# Altium schematic symbol library CONTROLLER_30_Library.SchLib: 48 symbols
Pins are listed as number, name and electrical type; pins without a type are passive.

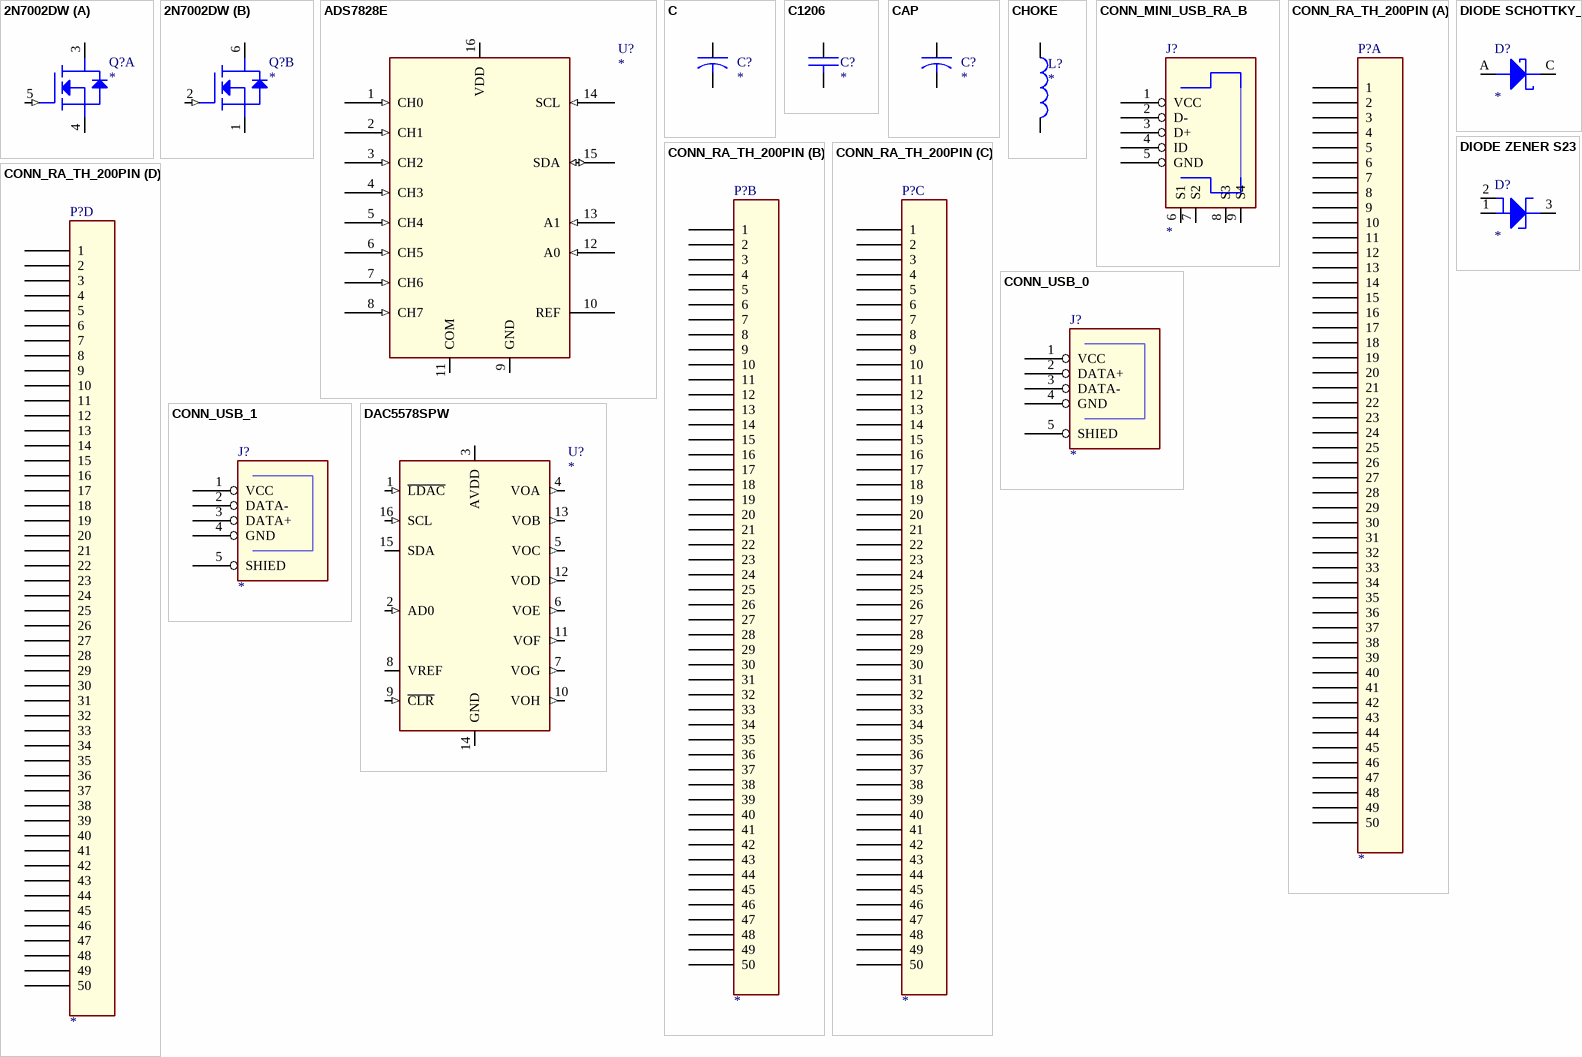
[diagram p0: symbols 2N7002DW to DIODE ZENER S23]

## 2N7002DW
designator Q?
footprint SOT_363
part A pins: 3 DRAIN, 4 SOURCE, 5 GATE (in)
part B pins: 1 SOURCE, 2 GATE (in), 6 DRAIN

## ADS7828E
designator U?
footprint TSSOP_16
pins: 1 CH0 (in), 2 CH1 (in), 3 CH2 (in), 4 CH3 (in), 5 CH4 (in), 6 CH5 (in), 7 CH6 (in), 8 CH7 (in), 9 GND, 10 REF, 11 COM, 12 A0 (in), 13 A1 (in), 14 SCL (in), 15 SDA (io), 16 VDD

## C
designator C?
pins: 1, 2

## C1206
designator C?
pins: 1, 2

## CAP
designator C?
pins: 1, 2

## CHOKE
designator L?
pins: 1, 2

## CONN_MINI_USB_RA_B
designator J?
footprint T/H_8
pins: 1 VCC, 2 D-, 3 D+, 4 ID, 5 GND, 6 S1, 7 S2, 8 S3, 9 S4

## CONN_RA_TH_200PIN
designator P?
footprint TH_4X50_100mil
part A pins: 1A 1, 2A 2, 3A 3, 4A 4, 5A 5, 6A 6, 7A 7, 8A 8, 9A 9, 10A 10, 11A 11, 12A 12, 13A 13, 14A 14, 15A 15, 16A 16, 17A 17, 18A 18, 19A 19, 20A 20, 21A 21, 22A 22, 23A 23, 24A 24, 25A 25, 26A 26, 27A 27, 28A 28, 29A 29, 30A 30, 31A 31, 32A 32, 33A 33, 34A 34, 35A 35, 36A 36, 37A 37, 38A 38, 39A 39, 40A 40, 41A 41, 42A 42, 43A 43, 44A 44, 45A 45, 46A 46, 47A 47, 48A 48, 49A 49, 50A 50
part B pins: 1B 1, 2B 2, 3B 3, 4B 4, 5B 5, 6B 6, 7B 7, 8B 8, 9B 9, 10B 10, 11B 11, 12B 12, 13B 13, 14B 14, 15B 15, 16B 16, 17B 17, 18B 18, 19B 19, 20B 20, 21B 21, 22B 22, 23B 23, 24B 24, 25B 25, 26B 26, 27B 27, 28B 28, 29B 29, 30B 30, 31B 31, 32B 32, 33B 33, 34B 34, 35B 35, 36B 36, 37B 37, 38B 38, 39B 39, 40B 40, 41B 41, 42B 42, 43B 43, 44B 44, 45B 45, 46B 46, 47B 47, 48B 48, 49B 49, 50B 50
part C pins: 1C 1, 2C 2, 3C 3, 4C 4, 5C 5, 6C 6, 7C 7, 8C 8, 9C 9, 10C 10, 11C 11, 12C 12, 13C 13, 14C 14, 15C 15, 16C 16, 17C 17, 18C 18, 19C 19, 20C 20, 21C 21, 22C 22, 23C 23, 24C 24, 25C 25, 26C 26, 27C 27, 28C 28, 29C 29, 30C 30, 31C 31, 32C 32, 33C 33, 34C 34, 35C 35, 36C 36, 37C 37, 38C 38, 39C 39, 40C 40, 41C 41, 42C 42, 43C 43, 44C 44, 45C 45, 46C 46, 47C 47, 48C 48, 49C 49, 50C 50
part D pins: 1D 1, 2D 2, 3D 3, 4D 4, 5D 5, 6D 6, 7D 7, 8D 8, 9D 9, 10D 10, 11D 11, 12D 12, 13D 13, 14D 14, 15D 15, 16D 16, 17D 17, 18D 18, 19D 19, 20D 20, 21D 21, 22D 22, 23D 23, 24D 24, 25D 25, 26D 26, 27D 27, 28D 28, 29D 29, 30D 30, 31D 31, 32D 32, 33D 33, 34D 34, 35D 35, 36D 36, 37D 37, 38D 38, 39D 39, 40D 40, 41D 41, 42D 42, 43D 43, 44D 44, 45D 45, 46D 46, 47D 47, 48D 48, 49D 49, 50D 50

## CONN_USB_0
designator J?
footprint T/H_8
pins: 1 VCC, 2 DATA+, 3 DATA-, 4 GND, 5 SHIED

## CONN_USB_1
designator J?
footprint T/H_8
pins: 1 VCC, 2 DATA-, 3 DATA+, 4 GND, 5 SHIED

## DAC5578SPW
designator U?
footprint TSSOP_16
pins: 1 ~{LDAC} (in), 2 AD0 (in), 3 AVDD, 4 VOA (out), 5 VOC (out), 6 VOE (out), 7 VOG (out), 8 VREF, 9 ~{CLR} (in), 10 VOH (out), 11 VOF (out), 12 VOD (out), 13 VOB (out), 14 GND, 15 SDA (io), 16 SCL (in)

## DIODE SCHOTTKY_2
designator D?
pins: A, C

## DIODE ZENER S23
designator D?
pins: 1 ANODE 1, 2 Anode 2, 3 CATHODE

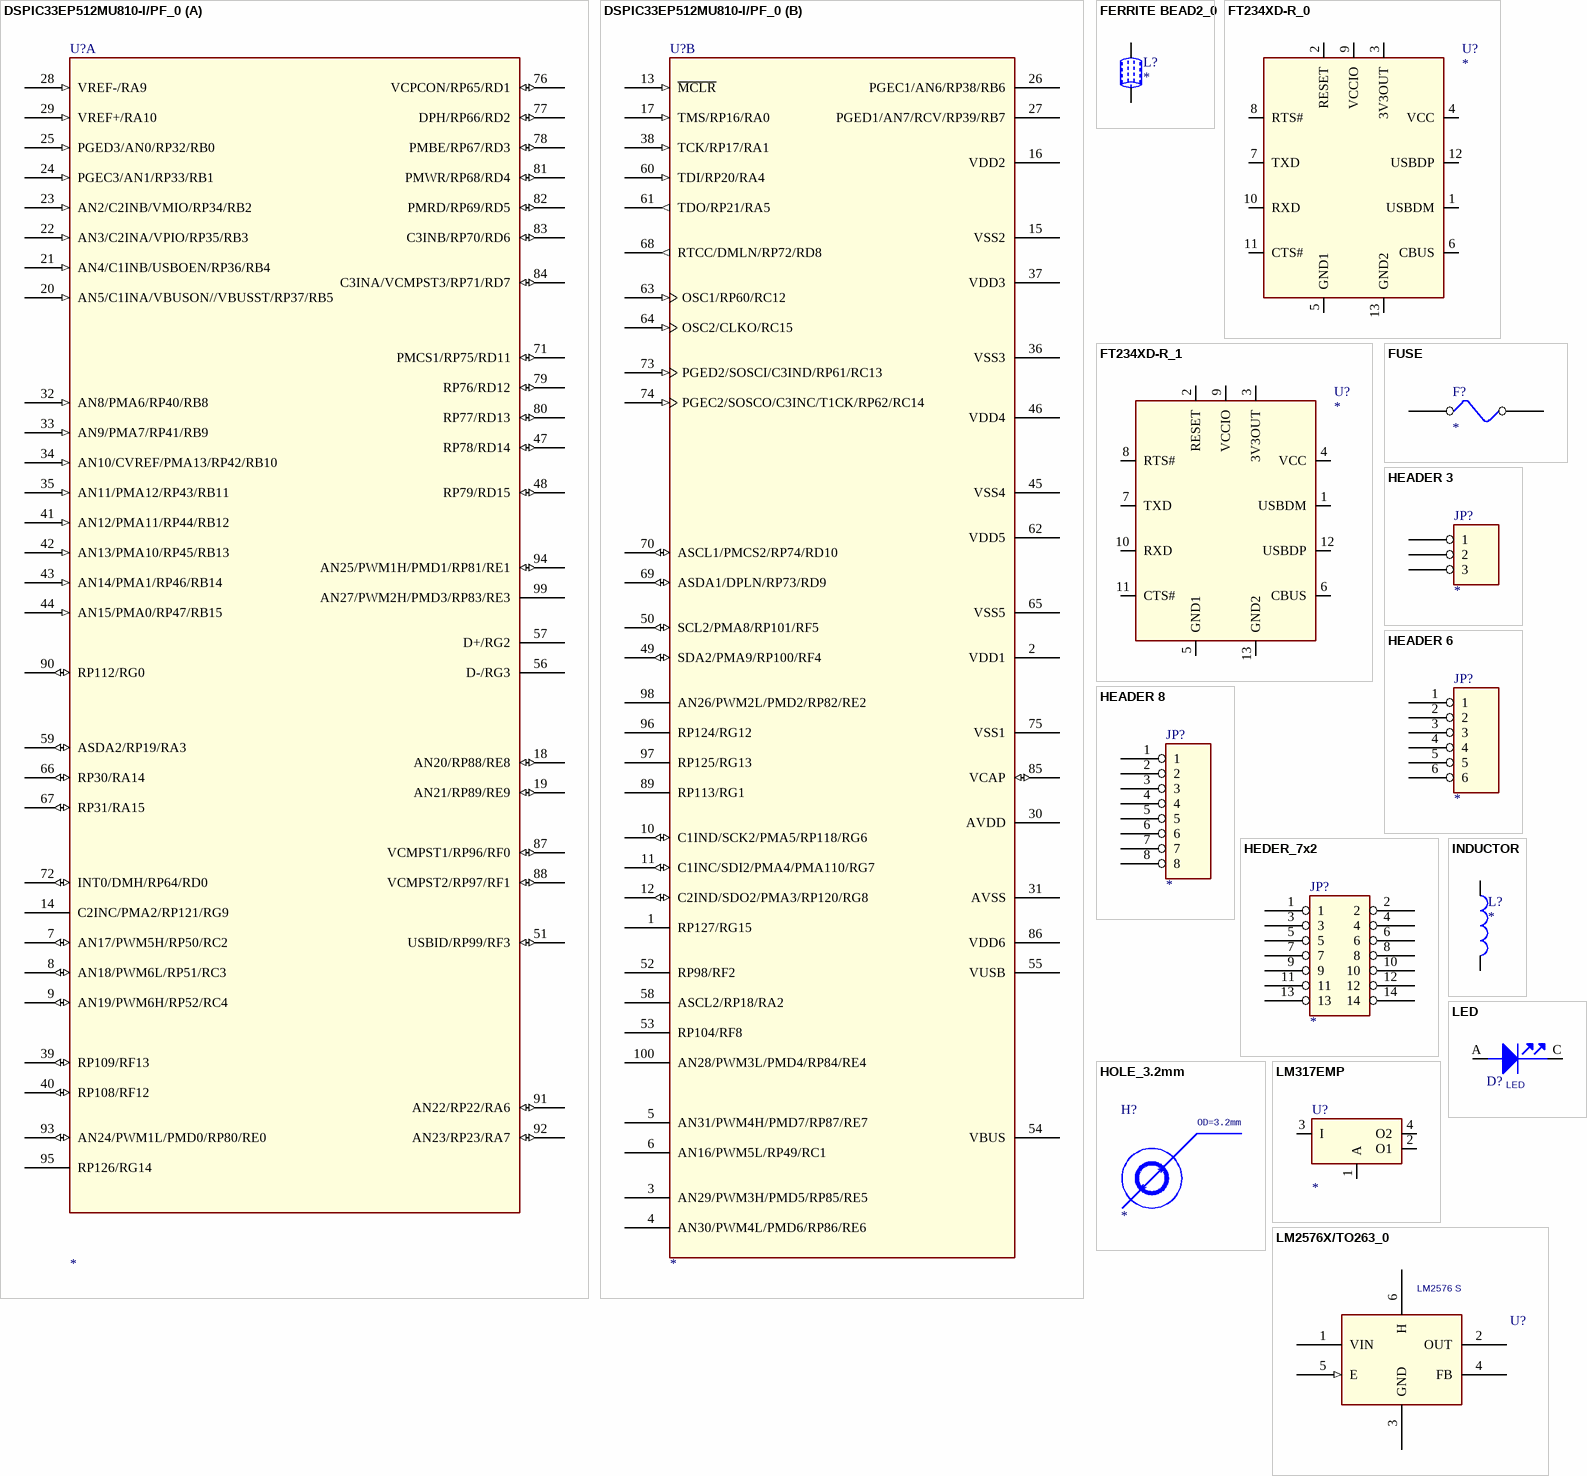
[diagram p1: symbols DSPIC33EP512MU810-I/PF_0 to LM2576X/TO263_0]

## DSPIC33EP512MU810-I/PF_0
designator U?
footprint TQFP100
part A pins: 7 AN17/PWM5H/RP50/RC2 (io), 8 AN18/PWM6L/RP51/RC3 (io), 9 AN19/PWM6H/RP52/RC4 (io), 14 C2INC/PMA2/RP121/RG9, 18 AN20/RP88/RE8 (io), 19 AN21/RP89/RE9 (io), 20 AN5/C1INA/VBUSON//VBUSST/RP37/RB5 (in), 21 AN4/C1INB/USBOEN/RP36/RB4 (in), 22 AN3/C2INA/VPIO/RP35/RB3 (in), 23 AN2/C2INB/VMIO/RP34/RB2 (in), 24 PGEC3/AN1/RP33/RB1 (in), 25 PGED3/AN0/RP32/RB0 (in), 28 VREF-/RA9 (in), 29 VREF+/RA10 (in), 32 AN8/PMA6/RP40/RB8 (in), 33 AN9/PMA7/RP41/RB9 (in), 34 AN10/CVREF/PMA13/RP42/RB10 (in), 35 AN11/PMA12/RP43/RB11 (in), 39 RP109/RF13 (io), 40 RP108/RF12 (io), 41 AN12/PMA11/RP44/RB12 (in), 42 AN13/PMA10/RP45/RB13 (in), 43 AN14/PMA1/RP46/RB14 (in), 44 AN15/PMA0/RP47/RB15 (in), 47 RP78/RD14 (io), 48 RP79/RD15 (io), 51 USBID/RP99/RF3 (io), 56 D-/RG3, 57 D+/RG2, 59 ASDA2/RP19/RA3 (io), 66 RP30/RA14 (io), 67 RP31/RA15 (io), 71 PMCS1/RP75/RD11 (io), 72 INT0/DMH/RP64/RD0 (io), 76 VCPCON/RP65/RD1 (io), 77 DPH/RP66/RD2 (io), 78 PMBE/RP67/RD3 (io), 79 RP76/RD12 (io), 80 RP77/RD13 (io), 81 PMWR/RP68/RD4 (io), 82 PMRD/RP69/RD5 (io), 83 C3INB/RP70/RD6 (io), 84 C3INA/VCMPST3/RP71/RD7 (io), 87 VCMPST1/RP96/RF0 (io), 88 VCMPST2/RP97/RF1 (io), 90 RP112/RG0 (io), 91 AN22/RP22/RA6 (io), 92 AN23/RP23/RA7 (io), 93 AN24/PWM1L/PMD0/RP80/RE0 (io), 94 AN25/PWM1H/PMD1/RP81/RE1 (io), 95 RP126/RG14, 99 AN27/PWM2H/PMD3/RP83/RE3
part B pins: 1 RP127/RG15, 2 VDD1 (power), 3 AN29/PWM3H/PMD5/RP85/RE5, 4 AN30/PWM4L/PMD6/RP86/RE6, 5 AN31/PWM4H/PMD7/RP87/RE7, 6 AN16/PWM5L/RP49/RC1, 10 C1IND/SCK2/PMA5/RP118/RG6 (io), 11 C1INC/SDI2/PMA4/PMA110/RG7 (io), 12 C2IND/SDO2/PMA3/RP120/RG8 (io), 13 ~{MCLR} (in), 15 VSS2 (power), 16 VDD2 (power), 17 TMS/RP16/RA0 (in), 26 PGEC1/AN6/RP38/RB6, 27 PGED1/AN7/RCV/RP39/RB7, 30 AVDD, 31 AVSS (power), 36 VSS3 (power), 37 VDD3 (power), 38 TCK/RP17/RA1 (in), 45 VSS4 (power), 46 VDD4 (power), 49 SDA2/PMA9/RP100/RF4 (io), 50 SCL2/PMA8/RP101/RF5 (io), 52 RP98/RF2, 53 RP104/RF8, 54 VBUS, 55 VUSB, 58 ASCL2/RP18/RA2, 60 TDI/RP20/RA4 (in), 61 TDO/RP21/RA5 (out), 62 VDD5 (power), 63 OSC1/RP60/RC12 (in), 64 OSC2/CLKO/RC15 (in), 65 VSS5 (power), 68 RTCC/DMLN/RP72/RD8 (out), 69 ASDA1/DPLN/RP73/RD9 (io), 70 ASCL1/PMCS2/RP74/RD10 (io), 73 PGED2/SOSCI/C3IND/RP61/RC13 (in), 74 PGEC2/SOSCO/C3INC/T1CK/RP62/RC14 (in), 75 VSS1 (power), 85 VCAP (io), 86 VDD6, 89 RP113/RG1, 96 RP124/RG12, 97 RP125/RG13, 98 AN26/PWM2L/PMD2/RP82/RE2, 100 AN28/PWM3L/PMD4/RP84/RE4

## FERRITE BEAD2_0
designator L?
pins: 1, 2

## FT234XD-R_0
designator U?
footprint DFN_12
pins: 1 USBDM, 2 RESET, 3 3V3OUT, 4 VCC, 5 GND1, 6 CBUS, 7 TXD, 8 RTS#, 9 VCCIO, 10 RXD, 11 CTS#, 12 USBDP, 13 GND2

## FT234XD-R_1
designator U?
footprint DFN_12
pins: 1 USBDM, 2 RESET, 3 3V3OUT, 4 VCC, 5 GND1, 6 CBUS, 7 TXD, 8 RTS#, 9 VCCIO, 10 RXD, 11 CTS#, 12 USBDP, 13 GND2

## FUSE
designator F?
pins: 1, 2

## HEADER 3
designator JP?
pins: 1, 2, 3

## HEADER 6
designator JP?
pins: 1, 2, 3, 4, 5, 6

## HEADER 8
designator JP?
pins: 1, 2, 3, 4, 5, 6, 7, 8

## HEDER_7x2
designator JP?
footprint HEADER_2x7PIN_100mil
pins: 1, 2, 3, 4, 5, 6, 7, 8, 9, 10, 11, 12, 13, 14

## HOLE_3.2mm
designator H?
footprint HOLE_3.2mm
text: OD=3.2mm

## INDUCTOR
designator L?
pins: 1, 2

## LED
designator D?
pins: A ANODE, C CATHODE

## LM317EMP
designator U?
footprint SOT_223
pins: 1 A, 2 O1, 3 I, 4 O2

## LM2576X/TO263_0
designator U?, comment LM2576 S
pins: 1 VIN, 2 OUT, 3 GND, 4 FB, 5 E (in), 6 H

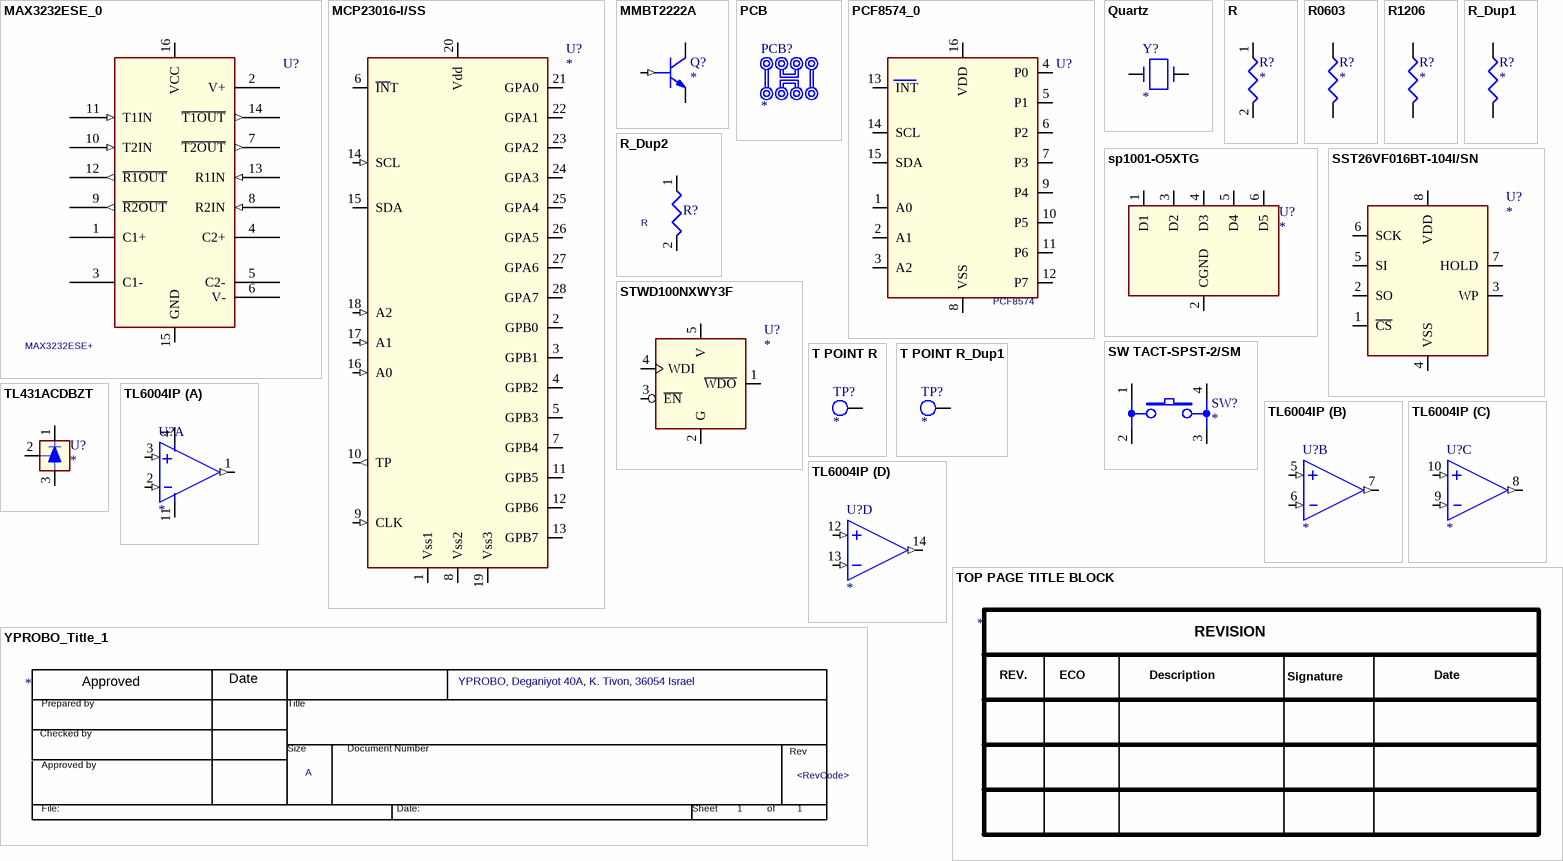
[diagram p2: symbols MAX3232ESE_0 to YPROBO_Title_1]

## MAX3232ESE_0
designator U?, comment MAX3232ESE+
pins: 1 C1+, 2 V+, 3 C1-, 4 C2+, 5 C2-, 6 V-, 7 ~{T2OUT} (out), 8 R2IN (in), 9 ~{R2OUT} (out), 10 T2IN (in), 11 T1IN (in), 12 ~{R1OUT} (out), 13 R1IN (in), 14 ~{T1OUT} (out), 15 GND (power), 16 VCC (power)

## MCP23016-I/SS
designator U?
footprint SO-18
pins: 1 Vss1, 2 GPB0 (io), 3 GPB1 (io), 4 GPB2 (io), 5 GPB3 (io), 6 ~{IN}T (oc), 7 GPB4 (io), 8 Vss2, 9 CLK (in), 10 TP (out), 11 GPB5 (io), 12 GPB6 (io), 13 GPB7 (io), 14 SCL (in), 15 SDA (io), 16 A0 (in), 17 A1 (in), 18 A2 (in), 19 Vss3, 20 Vdd, 21 GPA0 (io), 22 GPA1 (io), 23 GPA2 (io), 24 GPA3 (io), 25 GPA4 (io), 26 GPA5 (io), 27 GPA6 (io), 28 GPA7 (io)

## MMBT2222A
designator Q?
pins: 1 BASE (in), 2 EMITTER, 3 COLLECTOR

## PCB
designator PCB?
SDTSourceLibName: C:\TEMP\ICC.LIB

## PCF8574_0
designator U?, comment PCF8574
pins: 1 A0, 2 A1, 3 A2, 4 P0, 5 P1, 6 P2, 7 P3, 8 VSS, 9 P4, 10 P5, 11 P6, 12 P7, 13 INT, 14 SCL, 15 SDA, 16 VDD

## Quartz
designator Y?
pins: 1, 2

## R
designator R?
pins: 1, 2

## R0603
designator R?
pins: 1, 2

## R1206
designator R?
pins: 1, 2

## R_Dup1
designator R?
pins: 1, 2

## R_Dup2
designator R?, comment R
pins: 1, 2

## sp1001-O5XTG
designator U?
footprint SOT)563
pins: 1 D1, 2 CGND, 3 D2, 4 D3, 5 D4, 6 D5

## SST26VF016BT-104I/SN
designator U?
footprint SOIC_8
pins: 1 ~{CS}, 2 SO, 3 WP, 4 VSS, 5 SI, 6 SCK, 7 HOLD, 8 VDD

## STWD100NXWY3F
designator U?
footprint SOT_143
pins: 1 ~{WDO} (oc), 2 G, 3 ~{EN}, 4 WDI, 5 V

## SW TACT-SPST-2/SM
designator SW?
pins: 1, 2, 3, 4

## T POINT R
designator TP?
pins: 1 TP

## T POINT R_Dup1
designator TP?
pins: 1 TP

## TL431ACDBZT
designator U?
footprint SOT_23
pins: 1 CAT, 2 Vref, 3 ANODA

## TL6004IP
designator U?
footprint SO_14
part A pins: 1 OA (out), 2 IAN (in), 3 IAP (in), 4 VCC, 11 VEE
part B pins: 5 IBP (in), 6 IBN (in), 7 OB (out)
part C pins: 8 OC (out), 9 ICN (in), 10 ICP (in)
part D pins: 12 IDP (in), 13 IDN (in), 14 OD (out)

## TOP PAGE TITLE BLOCK
designator *  (graphical)
date3: dd/mm/yy; apr3: xxx; STATUS3: ---; date2: dd/mm/yy; APR2: xxx; STATUS2: ---; ECO3: ---; ECO2: ---; REV3: ---; REV2: ---; rev: ---; eco: ---; status: ---; apr: xxx; date: dd/mm/yy
text: REVISION; REV.; ECO; Description; Signature; Date

## YPROBO_Title_1
designator *  RevCode: <RevCode>  Page Size: A  Page Number: 1  company_Information: YPROBO, Deganiyot 40A, K. Tivon, 36054 Israel  (graphical)
Page Create Date: March  8, 1995; Page Count: 1
text: Date; Approved; Prepared by; Title; Checked by; Size; Document Number; Rev; Approved by; File:; Date:; Sheet; of